# Altium footprint library SparkFun-IC-Power.PCBLIB: 41 footprints (part 3 of 3)
Each footprint in its own frame and in the unit in brackets; x right, y up, seen from the top. Pads: shape width x height; smd on the part's side, far side on the other; paste and mask are expansions set on the pad; w line width, h text height; cw(c..) or ccw(c..) is an arc to the next point about the centre after c.
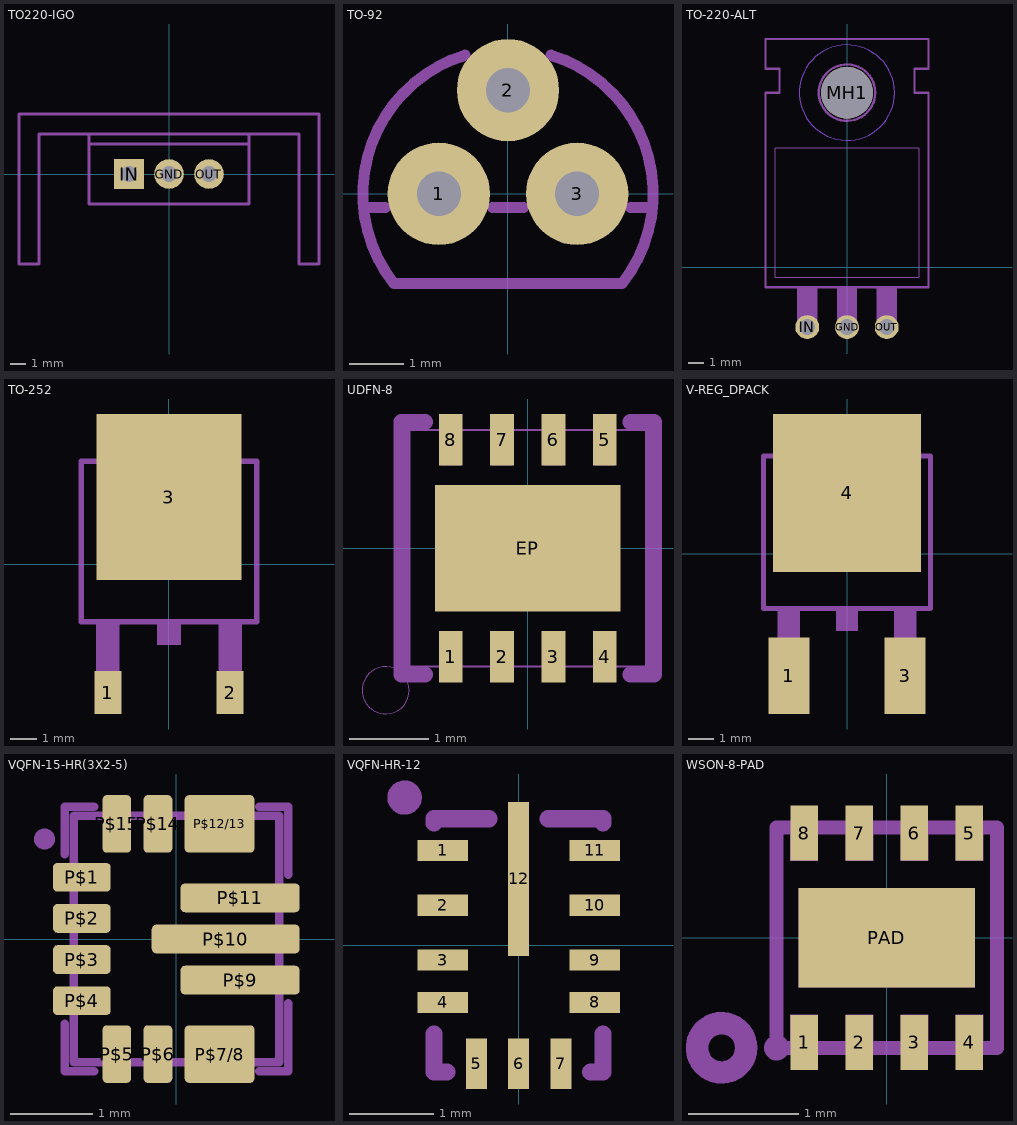
[diagram p2: the footprints below, top view; thin cyan lines are the x and y axes]

## TO220-IGO [mil]
pads (3):
  round 74 hole 39.37: GND(0,0) OUT(100,0)
  rect 74x74 / inner round 68.37 / far side rect 74x74 hole 39.37: IN(-100,0)
tDocu:
  lines w8: -200,100 -325,100 -325,-225 -375,-225 -375,150 375,150 375,-225 325,-225 325,100 200,100
tPlace:
  lines w8: -200,75 -200,-75 200,-75 200,75 ; -200,75 -200,100 200,100 200,75 ; -200,75 200,75

## TO-92 [mil]
pads (3):
  round 74 hole 32: 1(-50,0) 2(0,75) 3(50,0)
tPlace:
  lines w8: -104.52,-10 -88.73,-10 ; -30.96,100.33 ccw(c0,0) -82.46,-65 82.46,-65 ccw(c0,0) 30.96,100.33 ; -11.27,-10 11.27,-10 ; 88.73,-10 104.52,-10

## TO-220-ALT [mil]
pads (4):
  round 60 hole 40: GND(0,-150) IN(-100,-150) OUT(100,-150)
  round 130 hole 130 unplated: MH1(0,440)
Top keep-out:
  circle w0: c0,440 r120
Bottom keep-out:
  circle w0: c0,440 r120
tDocu:
  region: 75,-150 75,-85 125,-85 125,-150
  region: -25,-150 -25,-85 25,-85 25,-150
  region: -125,-150 -125,-85 -75,-85 -75,-150
  text "-" at -20,0 h77.5
  text "I" at -120,0 h77.5
  text "O" at 80,0 h77.5
tPlace:
  circle w6: c0,440 r71
  region: 75,-85 75,-50 125,-50 125,-85
  region: -25,-85 -25,-50 25,-50 25,-85
  region: -125,-85 -125,-50 -75,-50 -75,-85
  lines w2: -180,-25 180,-25 180,300 -180,300 -180,-25
  lines w6: -205,-50 205,-50 205,440 170,440 170,500 205,500 205,575 -205,575 -205,500 -170,500 -170,440 -205,440 -205,-50

## TO-252 [mm]
pads (3):
  rect 1x1.6 smd: 1(-2.28,-4.8) 2(2.28,-4.8)
  rect 5.4x6.2 smd: 3(0,2.5)
tDocu:
  region: -2.718,-5.156 -2.718,-2.261 -1.854,-2.261 -1.854,-5.156
  region: 1.854,-5.156 1.854,-2.261 2.718,-2.261 2.718,-5.156
  region: -2.565,3.937 -2.565,4.648 -2.108,5.105 2.108,5.105 2.565,4.648 2.565,3.937
  lines w0.203: -3.277,3.835 3.277,3.835 ; -2.565,3.937 -2.565,4.648 -2.108,5.105 2.108,5.105 2.565,4.648 2.565,3.937 -2.565,3.937
tPlace:
  region: -0.432,-3.023 -0.432,-2.261 0.432,-2.261 0.432,-3.023
  lines w0.203: -3.277,3.835 -3.277,-2.159 3.277,-2.159 3.277,3.835

## UDFN-8 [mm]
pads (9):
  rect 0.3x0.65 smd: 1(-0.975,-1.375) 2(-0.325,-1.375) 3(0.325,-1.375) 4(0.975,-1.375) 5(0.975,1.375) 6(0.325,1.375) 7(-0.325,1.375) 8(-0.975,1.375)
  rect 2.35x1.6 smd paste+0: EP(0,0)
Top Paste:
  region: -0.688,-0.4 -0.688,0.4 0.688,0.4 0.688,-0.4
tDocu:
  region: -0.45,-1.5 -0.45,-1.05 -0.2,-1.05 -0.2,-1.5
  region: 0.2,-1.5 0.2,-1.05 0.45,-1.05 0.45,-1.5
  region: 0.85,-1.5 0.85,-1.05 1.1,-1.05 1.1,-1.5
  region: -1.1,-1.5 -1.1,-1.05 -0.85,-1.05 -0.85,-1.5
  region: 0.45,1.5 0.45,1.05 0.2,1.05 0.2,1.5
  region: -0.2,1.5 -0.2,1.05 -0.45,1.05 -0.45,1.5
  region: -0.85,1.5 -0.85,1.05 -1.1,1.05 -1.1,1.5
  region: 1.1,1.5 1.1,1.05 0.85,1.05 0.85,1.5
  region: -1.125,-0.75 -1.125,0.75 1.125,0.75 1.125,-0.75
  lines w0.025: -1.5,-1.5 -1.5,1.5 1.5,1.5 1.5,-1.5 -1.5,-1.5
tPlace:
  circle w0: c-1.8,-1.8 r0.3
  lines w0.203: -1.3,-1.6 -1.6,-1.6 -1.6,1.6 -1.3,1.6 ; 1.3,-1.6 1.6,-1.6 1.6,1.6 1.3,1.6

## V-REG_DPACK [mm]
pads (3):
  rect 1.6x3 smd: 1(-2.28,-4.8) 3(2.28,-4.8)
  rect 5.8x6.2 smd: 4(0,2.38)
tDocu:
  region: -2.718,-5.156 -2.718,-2.261 -1.854,-2.261 -1.854,-5.156
  region: 1.854,-5.156 1.854,-2.261 2.718,-2.261 2.718,-5.156
  region: -2.565,3.937 -2.565,4.648 -2.108,5.105 2.108,5.105 2.565,4.648 2.565,3.937
  lines w0.203: -3.277,3.835 3.277,3.835 ; -2.565,3.937 -2.565,4.648 -2.108,5.105 2.108,5.105 2.565,4.648 2.565,3.937 -2.565,3.937
tPlace:
  region: -0.432,-3.023 -0.432,-2.261 0.432,-2.261 0.432,-3.023
  lines w0.203: -3.277,3.835 -3.277,-2.159 3.277,-2.159 3.277,3.835

## VQFN-15-HR(3X2-5) [mm]
pads (13):
  rrect30% 0.7x0.35 smd paste+0 mask+0: P$1(-1.15,0.75) P$2(-1.15,0.25) P$3(-1.15,-0.25) P$4(-1.15,-0.75)
  rrect30% 0.35x0.7 smd paste+0 mask+0: P$5(-0.725,-1.4) P$6(-0.225,-1.4) P$14(-0.225,1.4) P$15(-0.725,1.4)
  rrect15% 0.85x0.7 smd paste+0 mask+0: P$7/8(0.525,-1.4) P$12/13(0.525,1.4)
  rrect31% 1.45x0.35 smd paste+0 mask+0: P$9(0.775,-0.5) P$11(0.775,0.5)
  rrect31% 1.8x0.35 smd paste+0 mask+0: P$10(0.6,0)
Top Paste:
  drawing of 16 lines, arcs and shapes, not listed
Top Solder:
  drawing of 13 lines, arcs and shapes, not listed
tDocu:
  drawing of 17 lines, arcs and shapes, not listed
tPlace:
  region: -1.73,1.215 -1.73,1.24 -1.711,1.286 -1.676,1.321 -1.63,1.34 -1.605,1.34 -1.58,1.34 -1.534,1.321 -1.499,1.286 -1.48,1.24 -1.48,1.215 -1.48,1.19 -1.499,1.144 -1.534,1.109 -1.58,1.09 -1.605,1.09 -1.63,1.09 -1.676,1.109 -1.711,1.144 -1.73,1.19 -1.73,1.215
  lines w0.102: -1.36,-1.03 -1.36,-1.61 -1,-1.61 ; -1.36,1.03 -1.36,1.61 -1,1.61 ; 1.01,-1.61 1.36,-1.61 1.36,-0.78 ; 1.01,1.61 1.36,1.61 1.36,0.78

## VQFN-HR-12 [mm]
pads (12):
  rect 0.6x0.25 smd: 1(-0.9,1.125) 2(-0.9,0.475) 3(-0.9,-0.175) 4(-0.9,-0.675) 8(0.9,-0.675) 9(0.9,-0.175) 10(0.9,0.475) 11(0.9,1.125)
  rect 0.25x0.6 smd: 5(-0.5,-1.4) 6(0,-1.4) 7(0.5,-1.4)
  rect 0.25x1.824 smd: 12(0,0.788)
tPlace:
  circle w0.203: c-1.35,1.75 r0.102
  lines w0.203: -1,-1.05 -1,-1.5 -0.85,-1.5 ; -1,1.45 -1,1.5 -0.35,1.5 ; 0.35,1.5 1,1.5 1,1.45 ; 0.85,-1.5 1,-1.5 1,-1.05

## WSON-8-PAD [mm]
pads (9):
  rect 0.25x0.5 smd: 1(-0.75,-0.95) 2(-0.25,-0.95) 3(0.25,-0.95) 4(0.75,-0.95) 5(0.75,0.95) 6(0.25,0.95) 7(-0.25,0.95) 8(-0.75,0.95)
  rect 1.6x0.9 smd paste+0: PAD(0,0)
Top Paste:
  region: -0.65,-0.35 -0.65,0.35 0.65,0.35 0.65,-0.35
tDocu:
  circle w0.127: c-1.5,-1 r0.224
  region: -0.8,-0.45 -0.8,0.45 0.8,0.45 0.8,-0.45
  region: -0.375,-1 -0.375,-0.7 -0.125,-0.7 -0.125,-1
  region: -0.875,-1 -0.875,-0.7 -0.625,-0.7 -0.625,-1
  region: 0.125,-1 0.125,-0.7 0.375,-0.7 0.375,-1
  region: 0.625,-1 0.625,-0.7 0.875,-0.7 0.875,-1
  region: 0.375,1 0.375,0.7 0.125,0.7 0.125,1
  region: 0.875,1 0.875,0.7 0.625,0.7 0.625,1
  region: -0.125,1 -0.125,0.7 -0.375,0.7 -0.375,1
  region: -0.625,1 -0.625,0.7 -0.875,0.7 -0.875,1
  lines w0.127: -1,-1 -1,1 1,1 1,-1 -1,-1
tPlace:
  circle w0.127: c-1,-1 r0.05
  circle w0.203: c-1.5,-1 r0.224
  lines w0.127: -1,-1 -1,1 ; 1,-1 1,1